# Altium schematic symbol library MCP3561RT-E_ST.Schlib: 1 symbol
Pins are listed as number, name and electrical type; pins without a type are passive.

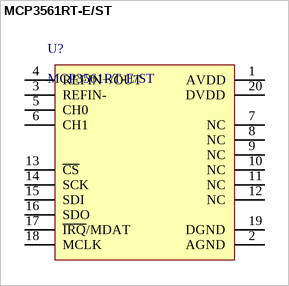
[diagram p0: symbol MCP3561RT-E/ST]

## MCP3561RT-E/ST
designator U?
24 Bit Analog to Digital Converter 1 Input 1 Sigma-Delta 20-TSSOP
pins: 1 AVDD, 2 AGND, 3 REFIN-, 4 REFIN+/OUT, 5 CH0, 6 CH1, 7 NC, 8 NC, 9 NC, 10 NC, 11 NC, 12 NC, 13 ~{CS}, 14 SCK, 15 SDI, 16 SDO, 17 ~{IRQ}/MDAT, 18 MCLK, 19 DGND, 20 DVDD